# Altium footprint library DC Power Jack.PcbLib: 1 footprints
Each footprint in its own frame and in the unit in brackets; x right, y up, seen from the top. Pads: shape width x height; smd on the part's side, far side on the other; paste and mask are expansions set on the pad; w line width, h text height; cw(c..) or ccw(c..) is an arc to the next point about the centre after c.
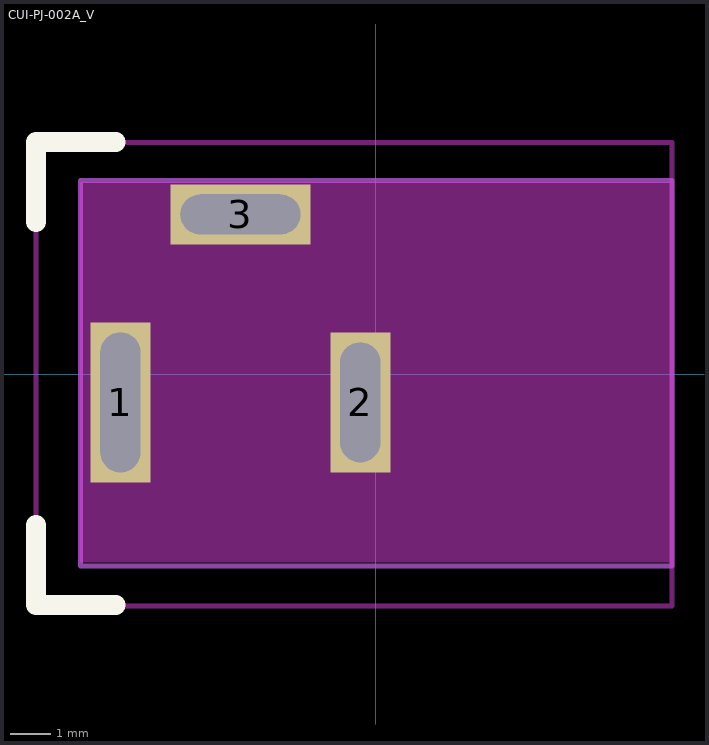
[diagram p0: the footprint, top view; thin cyan lines are the x and y axes]

## CUI-PJ-002A_V [mm] "THD, 3-Leads, Body 14.4x9mm, Height 11mm"
height 11
pads (3):
  rect 1.5x4 hole 1 slot 3.5 at 90 deg: 1(-6.387,-0.708)
  rect 1.5x3.5 hole 1 slot 3 at 90 deg: 2(-0.387,-0.708)
  rect 3.5x1.5 hole 1 slot 3 at 0 deg: 3(-3.387,3.992)
Top Overlay:
  lines w0.5: -8.504,-3.773 -8.504,-5.773 -6.504,-5.773 ; -8.504,3.81 -8.504,5.81 -6.504,5.81
Keep-Out Layer:
  region: -7.387,4.792 7.413,4.792 7.413,-4.708 -7.387,-4.708
  lines w0.127: -8.504,-5.808 -8.504,5.792 7.417,5.792 7.417,-5.808 -8.504,-5.808
Mechanical 15:
  lines w0.127: -7.387,-4.808 -7.387,4.842 7.413,4.842 7.413,-4.808 -7.387,-4.808
3D body "pj-002a.stp": height 11, standoff -3.5, extent -7.087,-4.708 7.313,4.692